# Altium schematic symbol library LM.SchLib: 2 symbols
Pins are listed as number, name and electrical type; pins without a type are passive.

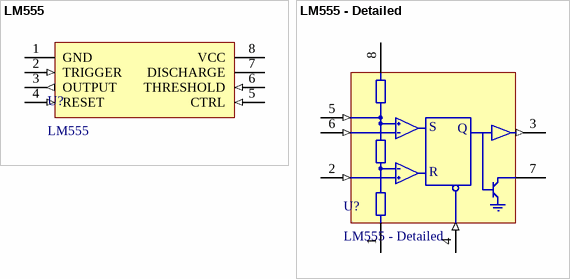
[diagram p0: symbols LM555 to LM555 - Detailed]

## LM555
designator U?
LM555 Timer
footprint PDIP8
footprint VSSOP-8
footprint SOIC8
pins: 1 GND (power), 2 TRIGGER (in), 3 OUTPUT (out), 4 RESET (in), 5 CTRL (in), 6 THRESHOLD (in), 7 DISCHARGE (oc), 8 VCC (power)

## LM555 - Detailed
designator U?
LM555 Timer
footprint PDIP8
footprint VSSOP-8
footprint SOIC8
pins: 1 GND (power), 2 TRIGGER (in), 3 OUTPUT (out), 4 RESET (in), 5 CONTROL (in), 6 THRESHOLD (in), 7 DISCHARGE (oc), 8 VCC (power)
text: S; Q; R